# Altium footprint library ADAR1000ACCZN.PcbLib: 1 footprints
Each footprint in its own frame and in the unit in brackets; x right, y up, seen from the top. Pads: shape width x height; smd on the part's side, far side on the other; paste and mask are expansions set on the pad; w line width, h text height; cw(c..) or ccw(c..) is an arc to the next point about the centre after c.
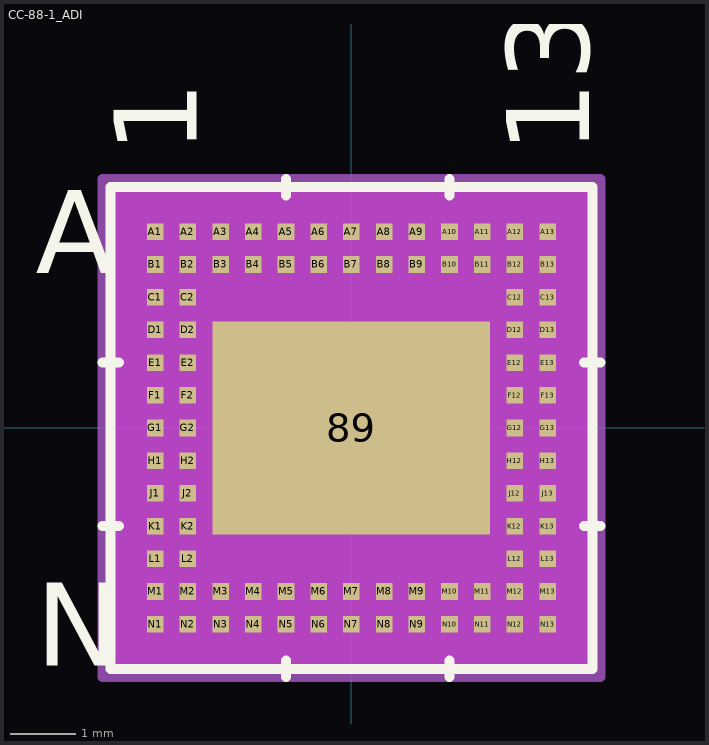
[diagram p0: the footprint, top view; thin cyan lines are the x and y axes]

## CC-88-1_ADI [mil]
pads (89):
  rect 167x128 smd paste-83 mask+0: 89(0,0)
  rect 10x10 smd paste+0 mask+0: A1(-118.11,118.11) A2(-98.43,118.11) A3(-78.74,118.11) A4(-59.06,118.11) A5(-39.37,118.11) A6(-19.68,118.11) A7(0,118.11) A8(19.68,118.11) A9(39.37,118.11) A10(59.06,118.11) A11(78.74,118.11) A12(98.43,118.11) A13(118.11,118.11) B1(-118.11,98.43) B2(-98.43,98.43) B3(-78.74,98.43) B4(-59.06,98.43) B5(-39.37,98.43) B6(-19.68,98.43) B7(0,98.43) B8(19.68,98.43) B9(39.37,98.43) B10(59.06,98.43) B11(78.74,98.43) B12(98.43,98.43) B13(118.11,98.43) C1(-118.11,78.74) C2(-98.43,78.74) C12(98.43,78.74) C13(118.11,78.74) D1(-118.11,59.06) D2(-98.43,59.06) D12(98.43,59.06) D13(118.11,59.06) E1(-118.11,39.37) E2(-98.43,39.37) E12(98.43,39.37) E13(118.11,39.37) F1(-118.11,19.68) F2(-98.43,19.68) F12(98.43,19.68) F13(118.11,19.68) G1(-118.11,0) G2(-98.43,0) G12(98.43,0) G13(118.11,0) H1(-118.11,-19.68) H2(-98.43,-19.68) H12(98.43,-19.68) H13(118.11,-19.68) J1(-118.11,-39.37) J2(-98.43,-39.37) J12(98.43,-39.37) J13(118.11,-39.37) K1(-118.11,-59.06) K2(-98.43,-59.06) K12(98.43,-59.06) K13(118.11,-59.06) L1(-118.11,-78.74) L2(-98.43,-78.74) L12(98.43,-78.74) L13(118.11,-78.74) M1(-118.11,-98.43) M2(-98.43,-98.43) M3(-78.74,-98.43) M4(-59.06,-98.43) M5(-39.37,-98.43) M6(-19.68,-98.43) M7(0,-98.43) M8(19.68,-98.43) M9(39.37,-98.43) M10(59.06,-98.43) M11(78.74,-98.43) M12(98.43,-98.43) M13(118.11,-98.43) N1(-118.11,-118.11) N2(-98.43,-118.11) N3(-78.74,-118.11) N4(-59.06,-118.11) N5(-39.37,-118.11) N6(-19.68,-118.11) N7(0,-118.11) N8(19.68,-118.11) N9(39.37,-118.11) N10(59.06,-118.11) N11(78.74,-118.11) N12(98.43,-118.11) N13(118.11,-118.11)
Top Overlay:
  lines w6: -150,-59.06 -140,-59.06 ; -150,39.37 -140,39.37 ; -39.37,-150 -39.37,-140 ; -39.37,140 -39.37,150 ; 59.06,-150 59.06,-140 ; 59.06,140 59.06,150 ; 140,-59.06 150,-59.06 ; 140,39.37 150,39.37 ; -145,-145 145,-145 145,145 -145,145 -145,-145
  text "A" at -190,93.11 h50
  text "N" at -190,-143.11 h50
  text "1" at -93.11,165 h50
  text "13" at 143.11,165 h50
  text ".Designator" at -137.5,-25 h50
Bottom Overlay:
  text "A" at -165,93.11 h50
  text "N" at -165,-143.11 h50
  text "1" at -143.11,165 h50
  text "13" at 93.11,165 h50
Top Paste:
  region: -31.77,60.06 -79.56,60.06 -79.56,3.94 -31.77,3.94
  region: -31.77,-3.94 -79.56,-3.94 -79.56,-60.06 -31.77,-60.06
  region: 23.9,60.06 -23.9,60.06 -23.9,3.94 23.9,3.94
  region: 23.9,-3.94 -23.9,-3.94 -23.9,-60.06 23.9,-60.06
  region: 79.56,60.06 31.77,60.06 31.77,3.94 79.56,3.94
  region: 79.56,-3.94 31.77,-3.94 31.77,-60.06 79.56,-60.06
Keep-Out Layer:
  region: -145.45,-145.45 -145.45,145.45 145.45,145.45 145.45,-145.45
Mechanical 13:
  lines w1: -140,130.16 -130.16,140 ; -140,-140 140,-140 140,140 -140,140 -140,-140
  text ".Designator" at -137.5,-25 h50
  text "A" at -190,93.11 h50
  text "N" at -190,-143.11 h50
  text "1" at -93.11,165 h50
  text "13" at 143.11,165 h50
Mechanical 15:
  region: 150,-150 -150,-150 -150,150 150,150
  lines w6: -150,-150 -150,150 150,150 150,-150 -150,-150
3D body "CC-88-1_ADI.step": height 21.1, standoff 0, extent -140,-140 140,140